# Altium schematic symbol library N_MOSFET.Schlib: 1 symbol
Pins are listed as number, name and electrical type; pins without a type are passive.

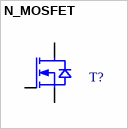
[diagram p0: symbol N_MOSFET]

## N_MOSFET
designator T?
N-Channel Enhancement MOSFET
pins: D, G, S